# EAGLE library part NC7WZ16P_S (library fairchild-semi)
UHS Dual Buffer
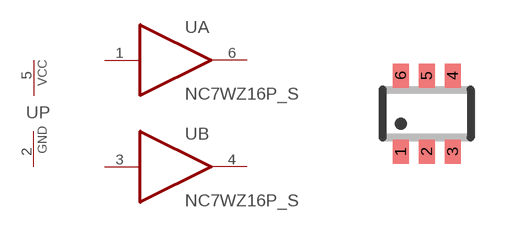
[diagram p3: symbol with the pads of SC70-6; footprint SC70-6]

Designator prefix U; gates A=GATE_BUF B=GATE_BUF P=PWRGNDV

## NC7WZ16P_S  [SC70-6]
1  A:I  in
2  P:GND  pwr
3  B:I  in
4  B:OUT  out
5  P:VCC  pwr
6  A:OUT  out

## Footprint SC70-6 (pad centres in mm)
SC-70 Package - Fairchild
smd 0.4 x 0.6: 1 -0.65,-0.95; 2 0,-0.95; 3 0.65,-0.95; 4 0.65,0.95; 5 0,0.95; 6 -0.65,0.95